# EAGLE library part SEGMENT_8X8_BICOLOR_ROWCATHODE (library my_adafruit)
8x8 Bi-Color LED Segment Displays: Row = Cathode 1.2" Bi-Color 8x8 Matrix, 3.0mm Square LEDs - BL-M12A883XX
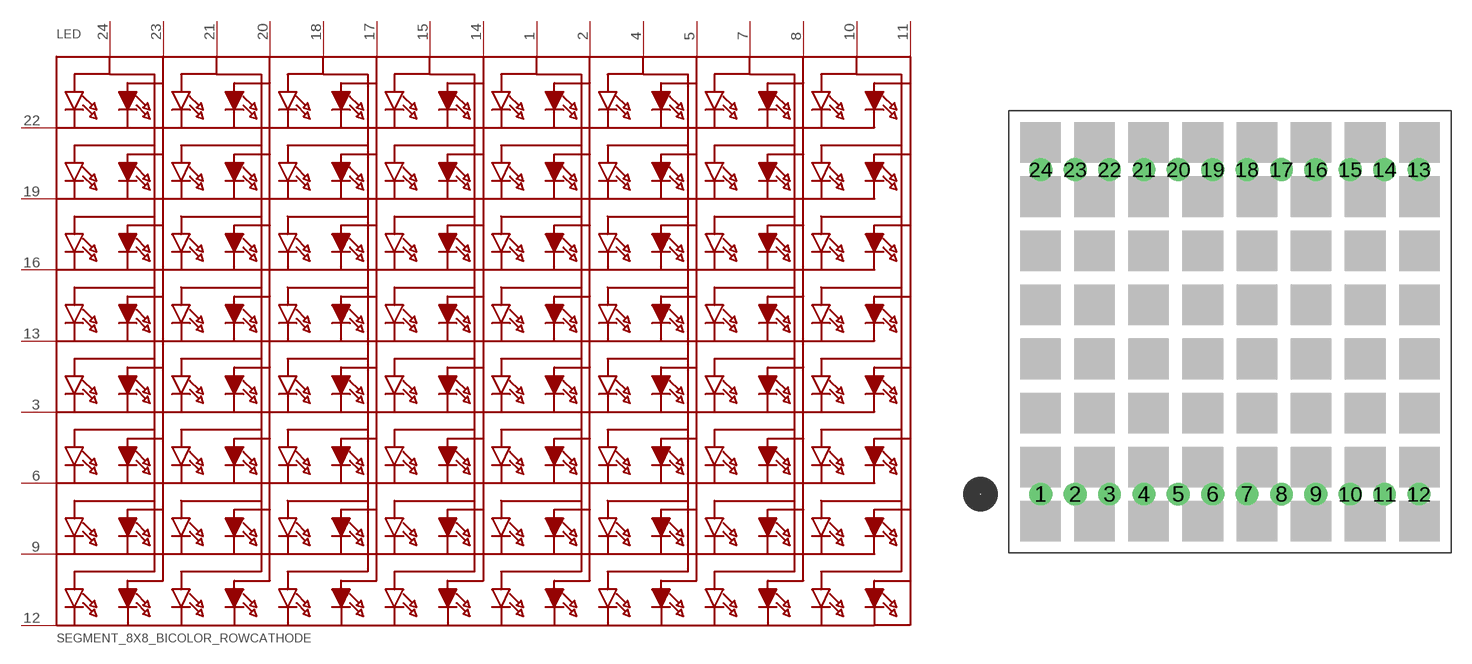
[diagram p70: symbol with the pads of SEGMENT_BICOL_BL-M12A883XX; footprint SEGMENT_BICOL_BL-M12A883XX]

Designator prefix LED

## SEGMENT_8X8_BICOLOR_ROWCATHODEMI2A883XX  [SEGMENT_BICOL_BL-M12A883XX]
1  A9
2  A10
3  K5
4  A11
5  A12
6  K6
7  A13
8  A14
9  K7
10  A15
11  A16
12  K8
13  K4
14  A8
15  A7
16  K3
17  A6
18  A5
19  K2
20  A4
21  A3
22  K1
23  A2
24  A1

## Footprint SEGMENT_BICOL_BL-M12A883XX (pad centres in mm)
Source: http://www.betlux.com/product/led_dot_matrix/BL-M12A883xx.PDF
drill 0.8 pad 1.676: 1 -13.97,-12; 2 -11.43,-12; 3 -8.89,-12; 4 -6.35,-12; 5 -3.81,-12; 6 -1.27,-12; 7 1.27,-12; 8 3.81,-12; 9 6.35,-12; 10 8.89,-12; 11 11.43,-12; 12 13.97,-12; 13 13.97,12; 14 11.43,12; 15 8.89,12; 16 6.35,12; 17 3.81,12; 18 1.27,12; 19 -1.27,12; 20 -3.81,12; 21 -6.35,12; 22 -8.89,12; 23 -11.43,12; 24 -13.97,12